# Altium schematic symbol library HI216_V2.SchLib: 1 symbol
Pins are listed as number, name and electrical type; pins without a type are passive.

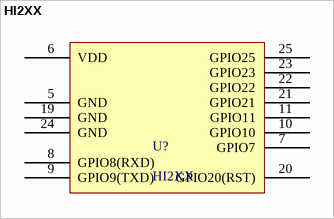
[diagram p0: symbol HI2XX]

## HI2XX
designator U?
footprint HI2XX_PLCC28 (Footprint not found)
pins: 5 GND, 6 VDD, 7 GPIO7, 8 GPIO8(RXD), 9 GPIO9(TXD), 10 GPIO10, 11 GPIO11, 19 GND, 20 GPIO20(RST), 21 GPIO21, 22 GPIO22, 23 GPIO23, 24 GND, 25 GPIO25